# Altium schematic symbol library Passives.SchLib: 5 symbols
Pins are listed as number, name and electrical type; pins without a type are passive.

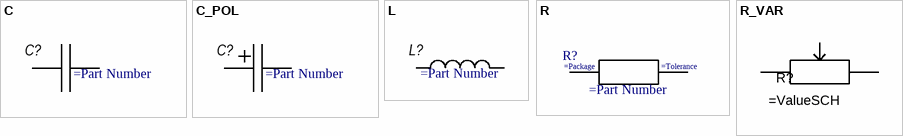
[diagram p0: symbols C to R_VAR]

## C
designator C?
CAPACITOR GOST
pins: 1, 2

## C_POL
designator C?
CAPACITOR POLARITY GOST
pins: 1, 2

## L
designator L?
pins: 1, 2

## R
designator R?
RESISTOR GOST
pins: 1, 2

## R_VAR
designator R?
Tolerance: ±25%; Ratings: 1/5W; SCDType: spec; Material: Cermet; Package / Case: 8.10mm L x 6.81mm W x 7.62mm H
footprint POT_3306F
pins: CCW 1, CW 3, W 2